# Altium integrated library Linear Technology Operational Amplifiers (LT2000-LT6000).IntLib: 1710 symbols (part 72 of 75)
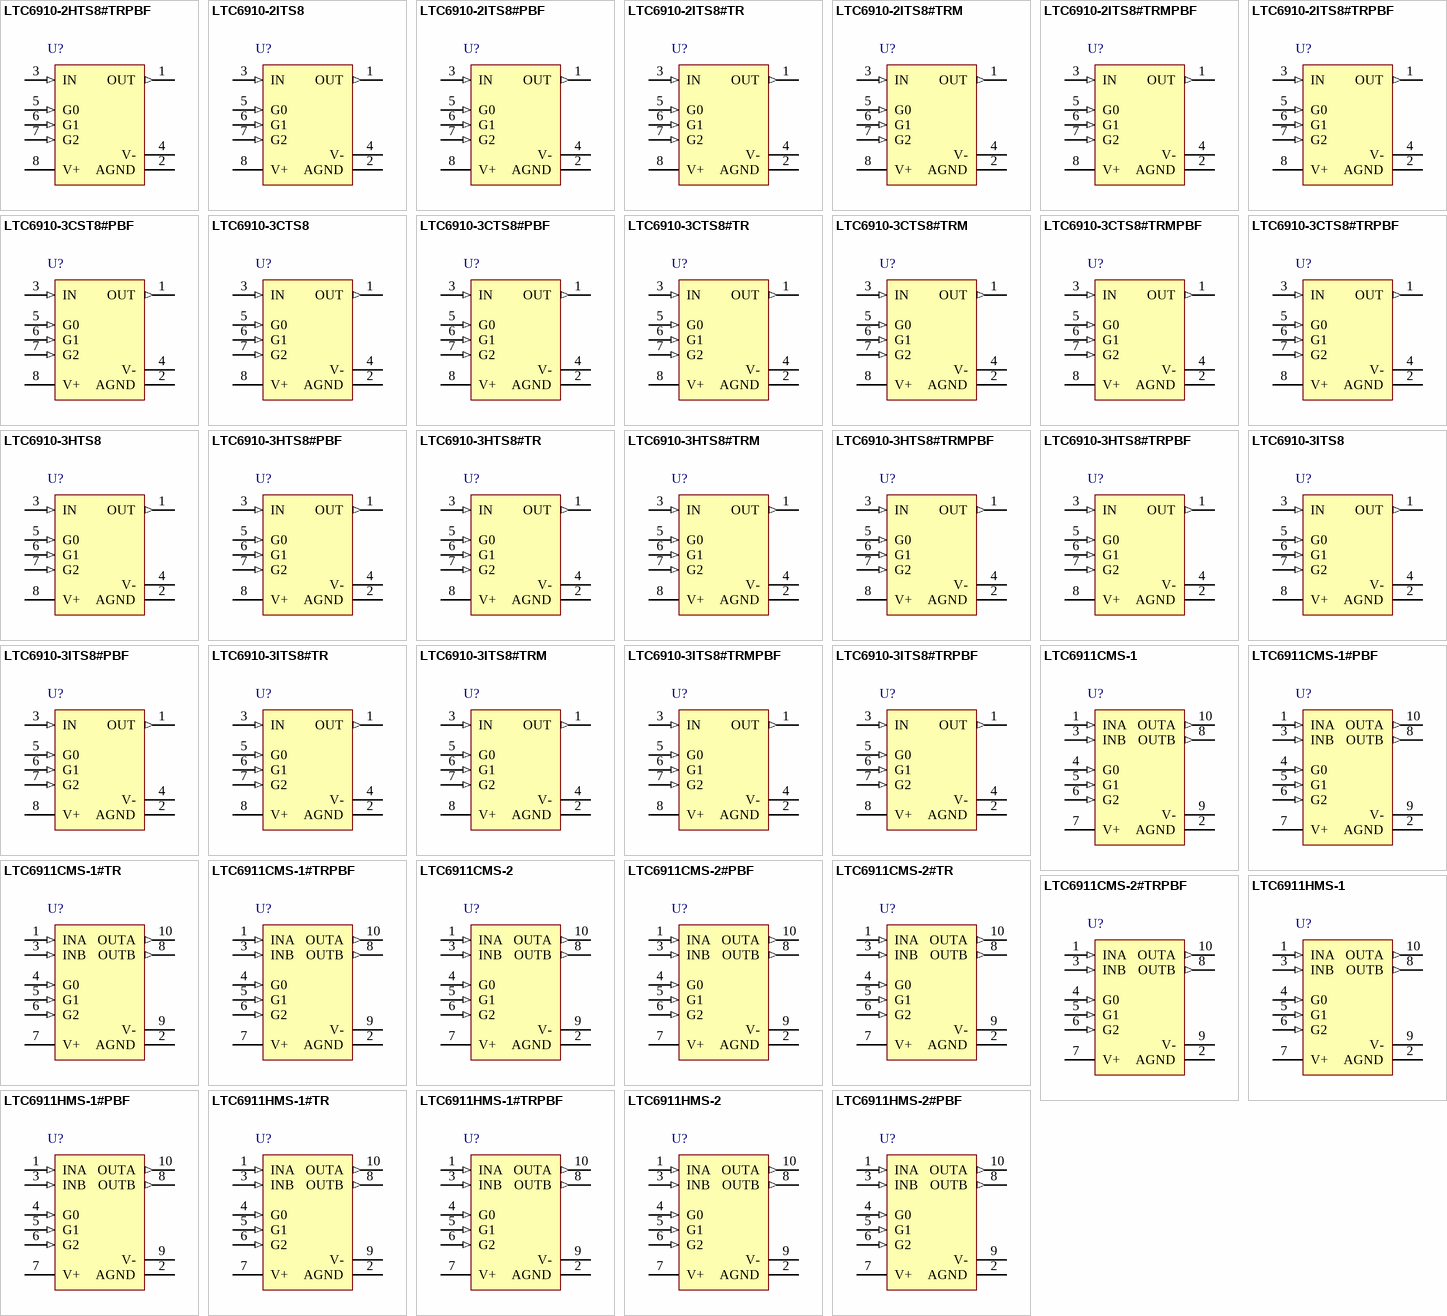
[diagram p151: symbols LTC6910-2HTS8#TRPBF to LTC6911HMS-2#PBF]

## LTC6911HMS-1#PBF
designator U?
Dual Channel, Matched Amplifier with Digitally Programmable Gain, 11 MHz Typical GBW, 16 V/us Typical SR, 2.7 to 10.5 V, 10-Pin SOP (MS-10), High Temperature / Automotive, Pb-Free; Linear Technology Part Number: LTC6911-1; Manufacturer: Linear Technology; PartNumber: LTC6911HMS-1#PBF; Channels (#): 2; GBW (MHz) Typical: 11; Is (mA) Typical: 2.1; SR (V/us) Typical: 16; Vs Max (V): 10.5; Vs Min (V): 2.7; PackageVersion: Rev E; PackageReference: LT-MS-10; PackageDescription: 10-Lead Plastic MSOP, Body 3 x 3 mm, Pitch 0.5 mm; Supplier 1: Digi-Key; Supplier Part Number 1: LTC6911HMS-1#PBF-ND; RoHS: Pb-Free; Type: PGA; Vos (mV) Typical: 2; Mounting Technology: Surface Mount; ComponentLink1Description: Manufacturer URL; ComponentLink1URL: http://www.linear.com/; ComponentLink2Description: Datasheet; ComponentLink2URL: http://cds.linear.com/docs/en/datasheet/691112fs.pdf; ComponentLink3Description: Package Specification; ComponentLink3URL: http://cds.linear.com/docs/en/packaging/MSOP_10_05-08-1661.pdf
footprint LT-MS-10_N (SOP, 10-Leads, Body 3x3mm, Pitch 0.50mm, IPC Medium Density)
footprint LT-MS-10_L (SOP, 10-Leads, Body 3x3mm, Pitch 0.50mm, IPC High Density)
footprint LT-MS-10_M (SOP, 10-Leads, Body 3x3mm, Pitch 0.50mm, IPC Low Density)
pins: 1 INA (in) "Analog Input. The input signal to the A channel amplifier of the LTC6911-X is the voltage difference between the INA and AGND pin.", 2 AGND (power) "Analog Ground. The AGND pin is at the midpoint of an internal resistive voltage divider, developing a potential halfway between the V+ and V- pins, with an equivalent series resistance to the pin of nominally 5kW (FigureÊ1).", 3 INB (in) "Analog Input. Refer to INA pin description.", 4 G0 (in) "CMOS-Level Digital Gain Control Inputs. G2 is the most significant bit (MSB) and G0 is the least significant bit (LSB). These pins control the voltage gain settings for both channels (see Tables 1 and2). Each channel’s gain (See Datasheet)", 5 G1 (in) "CMOS-Level Digital Gain Control Inputs. G2 is the most significant bit (MSB) and G0 is the least significant bit (LSB). These pins control the voltage gain settings for both channels (see Tables 1 and2). Each channel’s gain (See Datasheet)", 6 G2 (in) "CMOS-Level Digital Gain Control Inputs. G2 is the most significant bit (MSB) and G0 is the least significant bit (LSB). These pins control the voltage gain settings for both channels (see Tables 1 and2). Each channel’s gain (See Datasheet)", 7 V+ (power) "Power Supply Pins. The V+ and V- pins should be bypassed with 0.1mF capacitors to an adequate analog ground plane using the shortest possible wiring. Electrically clean supplies and a low impedance ground are important for (See Datasheet)", 8 OUTB (out) "Analog Output. This is the output of the B channel internal operational amplifier and can swing railto- rail (V+ to V-) as specified in the Electrical Characteristics table.", 9 V- (power) "Power Supply Pins. The V+ and V- pins should be bypassed with 0.1mF capacitors to an adequate analog ground plane using the shortest possible wiring. Electrically clean supplies and a low impedance ground are important for (See Datasheet)", 10 OUTA (out) "Analog Output. Refer to OUTB pin description."

## LTC6911HMS-1#TR
designator U?
Dual Channel, Matched Amplifier with Digitally Programmable Gain, 11 MHz Typical GBW, 16 V/us Typical SR, 2.7 to 10.5 V, 10-Pin SOP (MS-10), High Temperature / Automotive, Reel; Linear Technology Part Number: LTC6911-1; Manufacturer: Linear Technology; PartNumber: LTC6911HMS-1#TR; Channels (#): 2; GBW (MHz) Typical: 11; Is (mA) Typical: 2.1; SR (V/us) Typical: 16; Vs Max (V): 10.5; Vs Min (V): 2.7; PackageVersion: Rev E; PackageReference: LT-MS-10; PackageDescription: 10-Lead Plastic MSOP, Body 3 x 3 mm, Pitch 0.5 mm; Supplier 1: Digi-Key; Supplier Part Number 1: LTC6911HMS-1#TR-ND; Packing: Reel; Type: PGA; Vos (mV) Typical: 2; Mounting Technology: Surface Mount; ComponentLink1Description: Manufacturer URL; ComponentLink1URL: http://www.linear.com/; ComponentLink2Description: Datasheet; ComponentLink2URL: http://cds.linear.com/docs/en/datasheet/691112fs.pdf; ComponentLink3Description: Package Specification; ComponentLink3URL: http://cds.linear.com/docs/en/packaging/MSOP_10_05-08-1661.pdf
footprint LT-MS-10_N (SOP, 10-Leads, Body 3x3mm, Pitch 0.50mm, IPC Medium Density)
footprint LT-MS-10_L (SOP, 10-Leads, Body 3x3mm, Pitch 0.50mm, IPC High Density)
footprint LT-MS-10_M (SOP, 10-Leads, Body 3x3mm, Pitch 0.50mm, IPC Low Density)
pins: 1 INA (in) "Analog Input. The input signal to the A channel amplifier of the LTC6911-X is the voltage difference between the INA and AGND pin.", 2 AGND (power) "Analog Ground. The AGND pin is at the midpoint of an internal resistive voltage divider, developing a potential halfway between the V+ and V- pins, with an equivalent series resistance to the pin of nominally 5kW (FigureÊ1).", 3 INB (in) "Analog Input. Refer to INA pin description.", 4 G0 (in) "CMOS-Level Digital Gain Control Inputs. G2 is the most significant bit (MSB) and G0 is the least significant bit (LSB). These pins control the voltage gain settings for both channels (see Tables 1 and2). Each channel’s gain (See Datasheet)", 5 G1 (in) "CMOS-Level Digital Gain Control Inputs. G2 is the most significant bit (MSB) and G0 is the least significant bit (LSB). These pins control the voltage gain settings for both channels (see Tables 1 and2). Each channel’s gain (See Datasheet)", 6 G2 (in) "CMOS-Level Digital Gain Control Inputs. G2 is the most significant bit (MSB) and G0 is the least significant bit (LSB). These pins control the voltage gain settings for both channels (see Tables 1 and2). Each channel’s gain (See Datasheet)", 7 V+ (power) "Power Supply Pins. The V+ and V- pins should be bypassed with 0.1mF capacitors to an adequate analog ground plane using the shortest possible wiring. Electrically clean supplies and a low impedance ground are important for (See Datasheet)", 8 OUTB (out) "Analog Output. This is the output of the B channel internal operational amplifier and can swing railto- rail (V+ to V-) as specified in the Electrical Characteristics table.", 9 V- (power) "Power Supply Pins. The V+ and V- pins should be bypassed with 0.1mF capacitors to an adequate analog ground plane using the shortest possible wiring. Electrically clean supplies and a low impedance ground are important for (See Datasheet)", 10 OUTA (out) "Analog Output. Refer to OUTB pin description."

## LTC6911HMS-1#TRPBF
designator U?
Dual Channel, Matched Amplifier with Digitally Programmable Gain, 11 MHz Typical GBW, 16 V/us Typical SR, 2.7 to 10.5 V, 10-Pin SOP (MS-10), High Temperature / Automotive, Pb-Free, Reel; Linear Technology Part Number: LTC6911-1; Manufacturer: Linear Technology; PartNumber: LTC6911HMS-1#TRPBF; Channels (#): 2; GBW (MHz) Typical: 11; Is (mA) Typical: 2.1; SR (V/us) Typical: 16; Vs Max (V): 10.5; Vs Min (V): 2.7; PackageVersion: Rev E; PackageReference: LT-MS-10; PackageDescription: 10-Lead Plastic MSOP, Body 3 x 3 mm, Pitch 0.5 mm; Supplier 1: Digi-Key; Supplier Part Number 1: LTC6911HMS-1#TRPBF-ND; Packing: Reel; RoHS: Pb-Free; Type: PGA; Vos (mV) Typical: 2; Mounting Technology: Surface Mount; ComponentLink1Description: Manufacturer URL; ComponentLink1URL: http://www.linear.com/; ComponentLink2Description: Datasheet; ComponentLink2URL: http://cds.linear.com/docs/en/datasheet/691112fs.pdf; ComponentLink3Description: Package Specification; ComponentLink3URL: http://cds.linear.com/docs/en/packaging/MSOP_10_05-08-1661.pdf
footprint LT-MS-10_N (SOP, 10-Leads, Body 3x3mm, Pitch 0.50mm, IPC Medium Density)
footprint LT-MS-10_L (SOP, 10-Leads, Body 3x3mm, Pitch 0.50mm, IPC High Density)
footprint LT-MS-10_M (SOP, 10-Leads, Body 3x3mm, Pitch 0.50mm, IPC Low Density)
pins: 1 INA (in) "Analog Input. The input signal to the A channel amplifier of the LTC6911-X is the voltage difference between the INA and AGND pin.", 2 AGND (power) "Analog Ground. The AGND pin is at the midpoint of an internal resistive voltage divider, developing a potential halfway between the V+ and V- pins, with an equivalent series resistance to the pin of nominally 5kW (FigureÊ1).", 3 INB (in) "Analog Input. Refer to INA pin description.", 4 G0 (in) "CMOS-Level Digital Gain Control Inputs. G2 is the most significant bit (MSB) and G0 is the least significant bit (LSB). These pins control the voltage gain settings for both channels (see Tables 1 and2). Each channel’s gain (See Datasheet)", 5 G1 (in) "CMOS-Level Digital Gain Control Inputs. G2 is the most significant bit (MSB) and G0 is the least significant bit (LSB). These pins control the voltage gain settings for both channels (see Tables 1 and2). Each channel’s gain (See Datasheet)", 6 G2 (in) "CMOS-Level Digital Gain Control Inputs. G2 is the most significant bit (MSB) and G0 is the least significant bit (LSB). These pins control the voltage gain settings for both channels (see Tables 1 and2). Each channel’s gain (See Datasheet)", 7 V+ (power) "Power Supply Pins. The V+ and V- pins should be bypassed with 0.1mF capacitors to an adequate analog ground plane using the shortest possible wiring. Electrically clean supplies and a low impedance ground are important for (See Datasheet)", 8 OUTB (out) "Analog Output. This is the output of the B channel internal operational amplifier and can swing railto- rail (V+ to V-) as specified in the Electrical Characteristics table.", 9 V- (power) "Power Supply Pins. The V+ and V- pins should be bypassed with 0.1mF capacitors to an adequate analog ground plane using the shortest possible wiring. Electrically clean supplies and a low impedance ground are important for (See Datasheet)", 10 OUTA (out) "Analog Output. Refer to OUTB pin description."

## LTC6911HMS-2
designator U?
Dual Channel, Matched Amplifier with Digitally Programmable Gain, 11 MHz Typical GBW, 16 V/us Typical SR, 2.7 to 10.5 V, 10-Pin SOP (MS-10), High Temperature / Automotive; Linear Technology Part Number: LTC6911-2; Manufacturer: Linear Technology; PartNumber: LTC6911HMS-2; Channels (#): 2; GBW (MHz) Typical: 11; Is (mA) Typical: 2.1; SR (V/us) Typical: 16; Vs Max (V): 10.5; Vs Min (V): 2.7; PackageVersion: Rev E; PackageReference: LT-MS-10; PackageDescription: 10-Lead Plastic MSOP, Body 3 x 3 mm, Pitch 0.5 mm; Supplier 1: Digi-Key; Supplier Part Number 1: LTC6911HMS-2-ND; Type: PGA; Vos (mV) Typical: 2; Mounting Technology: Surface Mount; ComponentLink1Description: Manufacturer URL; ComponentLink1URL: http://www.linear.com/; ComponentLink2Description: Datasheet; ComponentLink2URL: http://cds.linear.com/docs/en/datasheet/691112fs.pdf; ComponentLink3Description: Package Specification; ComponentLink3URL: http://cds.linear.com/docs/en/packaging/MSOP_10_05-08-1661.pdf
footprint LT-MS-10_N (SOP, 10-Leads, Body 3x3mm, Pitch 0.50mm, IPC Medium Density)
footprint LT-MS-10_L (SOP, 10-Leads, Body 3x3mm, Pitch 0.50mm, IPC High Density)
footprint LT-MS-10_M (SOP, 10-Leads, Body 3x3mm, Pitch 0.50mm, IPC Low Density)
pins: 1 INA (in) "Analog Input. The input signal to the A channel amplifier of the LTC6911-X is the voltage difference between the INA and AGND pin.", 2 AGND (power) "Analog Ground. The AGND pin is at the midpoint of an internal resistive voltage divider, developing a potential halfway between the V+ and V- pins, with an equivalent series resistance to the pin of nominally 5kW (FigureÊ1).", 3 INB (in) "Analog Input. Refer to INA pin description.", 4 G0 (in) "CMOS-Level Digital Gain Control Inputs. G2 is the most significant bit (MSB) and G0 is the least significant bit (LSB). These pins control the voltage gain settings for both channels (see Tables 1 and2). Each channel’s gain (See Datasheet)", 5 G1 (in) "CMOS-Level Digital Gain Control Inputs. G2 is the most significant bit (MSB) and G0 is the least significant bit (LSB). These pins control the voltage gain settings for both channels (see Tables 1 and2). Each channel’s gain (See Datasheet)", 6 G2 (in) "CMOS-Level Digital Gain Control Inputs. G2 is the most significant bit (MSB) and G0 is the least significant bit (LSB). These pins control the voltage gain settings for both channels (see Tables 1 and2). Each channel’s gain (See Datasheet)", 7 V+ (power) "Power Supply Pins. The V+ and V- pins should be bypassed with 0.1mF capacitors to an adequate analog ground plane using the shortest possible wiring. Electrically clean supplies and a low impedance ground are important for (See Datasheet)", 8 OUTB (out) "Analog Output. This is the output of the B channel internal operational amplifier and can swing railto- rail (V+ to V-) as specified in the Electrical Characteristics table.", 9 V- (power) "Power Supply Pins. The V+ and V- pins should be bypassed with 0.1mF capacitors to an adequate analog ground plane using the shortest possible wiring. Electrically clean supplies and a low impedance ground are important for (See Datasheet)", 10 OUTA (out) "Analog Output. Refer to OUTB pin description."

## LTC6911HMS-2#PBF
designator U?
Dual Channel, Matched Amplifier with Digitally Programmable Gain, 11 MHz Typical GBW, 16 V/us Typical SR, 2.7 to 10.5 V, 10-Pin SOP (MS-10), High Temperature / Automotive, Pb-Free; Linear Technology Part Number: LTC6911-2; Manufacturer: Linear Technology; PartNumber: LTC6911HMS-2#PBF; Channels (#): 2; GBW (MHz) Typical: 11; Is (mA) Typical: 2.1; SR (V/us) Typical: 16; Vs Max (V): 10.5; Vs Min (V): 2.7; PackageVersion: Rev E; PackageReference: LT-MS-10; PackageDescription: 10-Lead Plastic MSOP, Body 3 x 3 mm, Pitch 0.5 mm; Supplier 1: Digi-Key; Supplier Part Number 1: LTC6911HMS-2#PBF-ND; Supplier 2: Newark; Supplier Part Number 2: 57M0377; RoHS: Pb-Free; Type: PGA; Vos (mV) Typical: 2; Mounting Technology: Surface Mount; ComponentLink1Description: Manufacturer URL; ComponentLink1URL: http://www.linear.com/; ComponentLink2Description: Datasheet; ComponentLink2URL: http://cds.linear.com/docs/en/datasheet/691112fs.pdf; ComponentLink3Description: Package Specification; ComponentLink3URL: http://cds.linear.com/docs/en/packaging/MSOP_10_05-08-1661.pdf
footprint LT-MS-10_N (SOP, 10-Leads, Body 3x3mm, Pitch 0.50mm, IPC Medium Density)
footprint LT-MS-10_L (SOP, 10-Leads, Body 3x3mm, Pitch 0.50mm, IPC High Density)
footprint LT-MS-10_M (SOP, 10-Leads, Body 3x3mm, Pitch 0.50mm, IPC Low Density)
pins: 1 INA (in) "Analog Input. The input signal to the A channel amplifier of the LTC6911-X is the voltage difference between the INA and AGND pin.", 2 AGND (power) "Analog Ground. The AGND pin is at the midpoint of an internal resistive voltage divider, developing a potential halfway between the V+ and V- pins, with an equivalent series resistance to the pin of nominally 5kW (FigureÊ1).", 3 INB (in) "Analog Input. Refer to INA pin description.", 4 G0 (in) "CMOS-Level Digital Gain Control Inputs. G2 is the most significant bit (MSB) and G0 is the least significant bit (LSB). These pins control the voltage gain settings for both channels (see Tables 1 and2). Each channel’s gain (See Datasheet)", 5 G1 (in) "CMOS-Level Digital Gain Control Inputs. G2 is the most significant bit (MSB) and G0 is the least significant bit (LSB). These pins control the voltage gain settings for both channels (see Tables 1 and2). Each channel’s gain (See Datasheet)", 6 G2 (in) "CMOS-Level Digital Gain Control Inputs. G2 is the most significant bit (MSB) and G0 is the least significant bit (LSB). These pins control the voltage gain settings for both channels (see Tables 1 and2). Each channel’s gain (See Datasheet)", 7 V+ (power) "Power Supply Pins. The V+ and V- pins should be bypassed with 0.1mF capacitors to an adequate analog ground plane using the shortest possible wiring. Electrically clean supplies and a low impedance ground are important for (See Datasheet)", 8 OUTB (out) "Analog Output. This is the output of the B channel internal operational amplifier and can swing railto- rail (V+ to V-) as specified in the Electrical Characteristics table.", 9 V- (power) "Power Supply Pins. The V+ and V- pins should be bypassed with 0.1mF capacitors to an adequate analog ground plane using the shortest possible wiring. Electrically clean supplies and a low impedance ground are important for (See Datasheet)", 10 OUTA (out) "Analog Output. Refer to OUTB pin description."

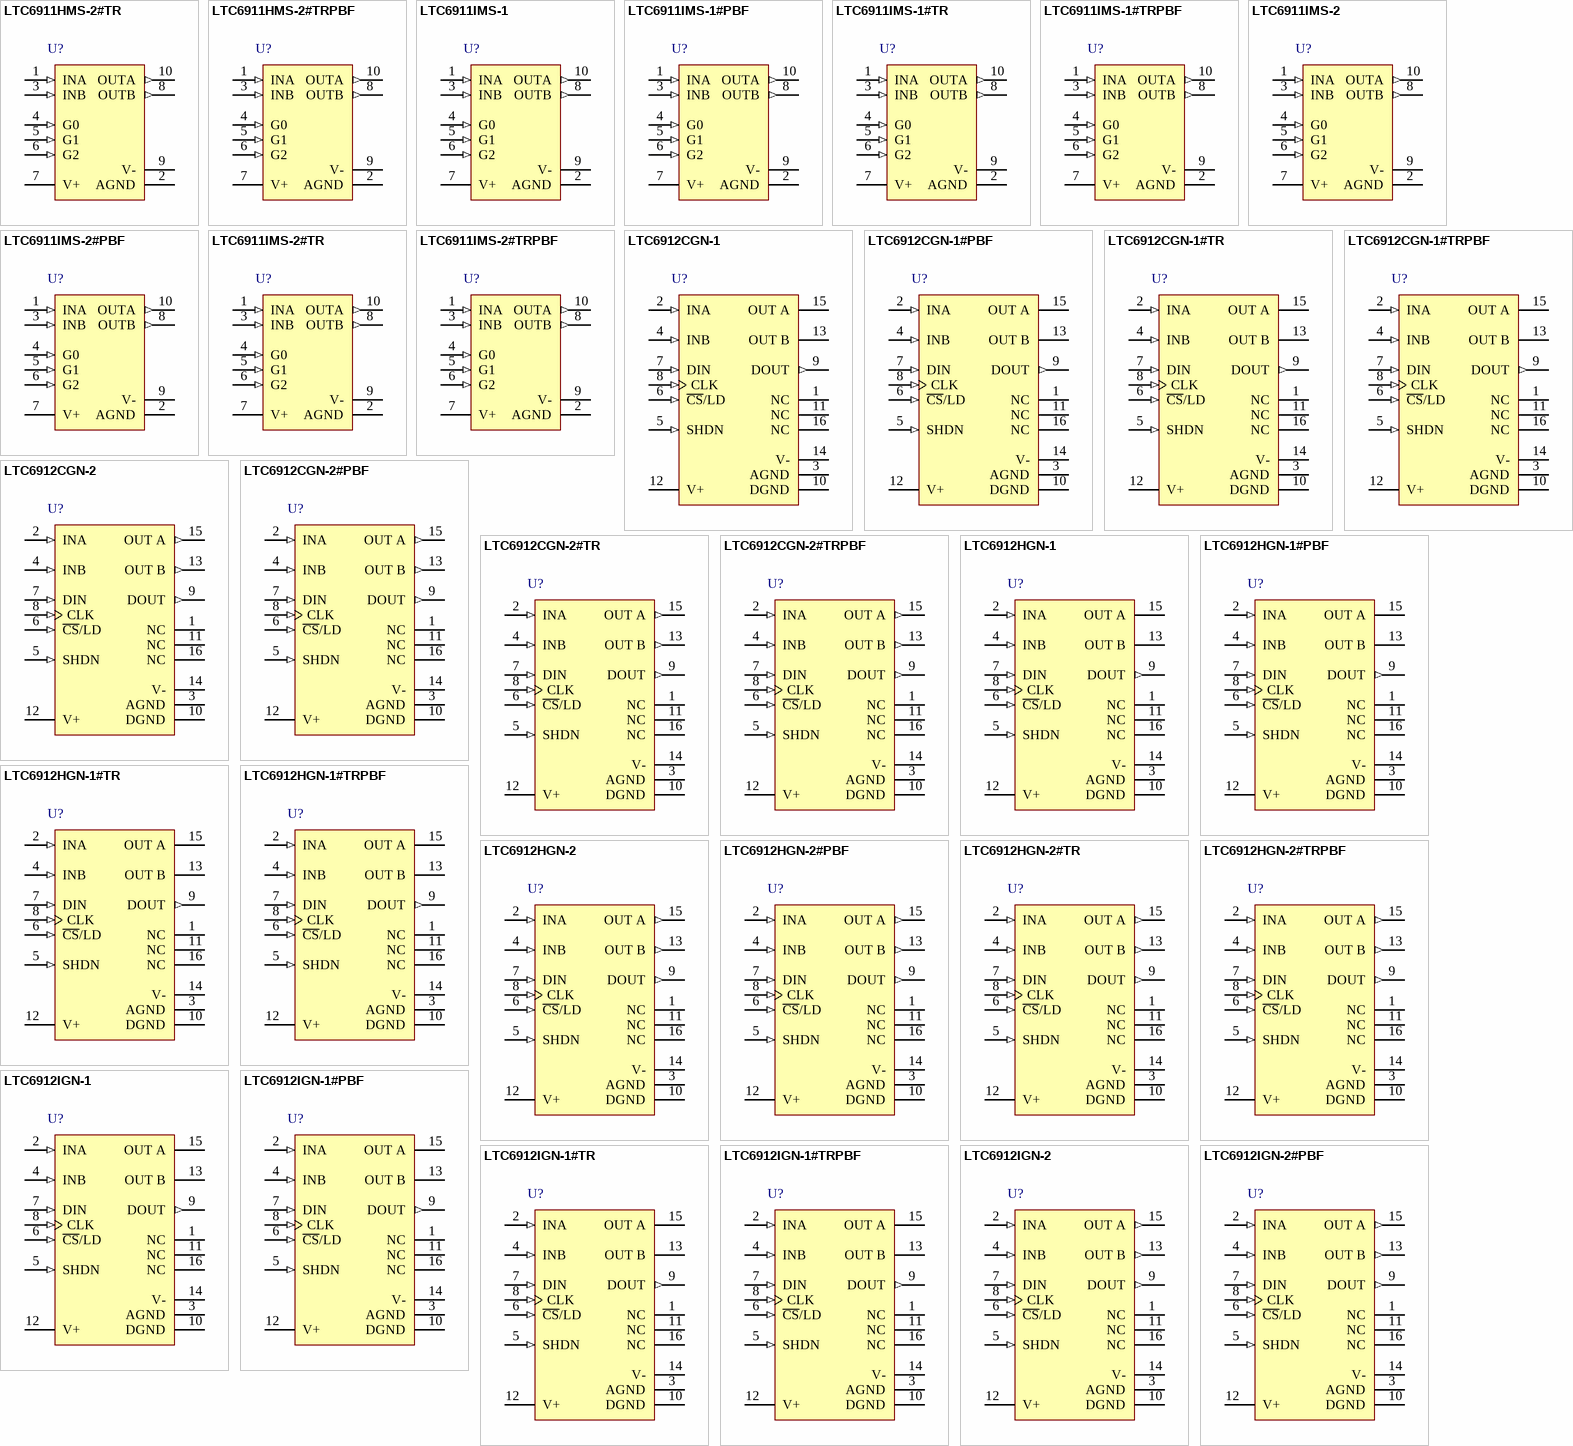
[diagram p79: symbols LTC6911HMS-2#TR to LTC6912IGN-2#PBF]

## LTC6911HMS-2#TR
designator U?
Dual Channel, Matched Amplifier with Digitally Programmable Gain, 11 MHz Typical GBW, 16 V/us Typical SR, 2.7 to 10.5 V, 10-Pin SOP (MS-10), High Temperature / Automotive, Reel; Linear Technology Part Number: LTC6911-2; Manufacturer: Linear Technology; PartNumber: LTC6911HMS-2#TR; Channels (#): 2; GBW (MHz) Typical: 11; Is (mA) Typical: 2.1; SR (V/us) Typical: 16; Vs Max (V): 10.5; Vs Min (V): 2.7; PackageVersion: Rev E; PackageReference: LT-MS-10; PackageDescription: 10-Lead Plastic MSOP, Body 3 x 3 mm, Pitch 0.5 mm; Supplier 1: Digi-Key; Supplier Part Number 1: LTC6911HMS-2#TR-ND; Packing: Reel; Type: PGA; Vos (mV) Typical: 2; Mounting Technology: Surface Mount; ComponentLink1Description: Manufacturer URL; ComponentLink1URL: http://www.linear.com/; ComponentLink2Description: Datasheet; ComponentLink2URL: http://cds.linear.com/docs/en/datasheet/691112fs.pdf; ComponentLink3Description: Package Specification; ComponentLink3URL: http://cds.linear.com/docs/en/packaging/MSOP_10_05-08-1661.pdf
footprint LT-MS-10_N (SOP, 10-Leads, Body 3x3mm, Pitch 0.50mm, IPC Medium Density)
footprint LT-MS-10_L (SOP, 10-Leads, Body 3x3mm, Pitch 0.50mm, IPC High Density)
footprint LT-MS-10_M (SOP, 10-Leads, Body 3x3mm, Pitch 0.50mm, IPC Low Density)
pins: 1 INA (in) "Analog Input. The input signal to the A channel amplifier of the LTC6911-X is the voltage difference between the INA and AGND pin.", 2 AGND (power) "Analog Ground. The AGND pin is at the midpoint of an internal resistive voltage divider, developing a potential halfway between the V+ and V- pins, with an equivalent series resistance to the pin of nominally 5kW (FigureÊ1).", 3 INB (in) "Analog Input. Refer to INA pin description.", 4 G0 (in) "CMOS-Level Digital Gain Control Inputs. G2 is the most significant bit (MSB) and G0 is the least significant bit (LSB). These pins control the voltage gain settings for both channels (see Tables 1 and2). Each channel’s gain (See Datasheet)", 5 G1 (in) "CMOS-Level Digital Gain Control Inputs. G2 is the most significant bit (MSB) and G0 is the least significant bit (LSB). These pins control the voltage gain settings for both channels (see Tables 1 and2). Each channel’s gain (See Datasheet)", 6 G2 (in) "CMOS-Level Digital Gain Control Inputs. G2 is the most significant bit (MSB) and G0 is the least significant bit (LSB). These pins control the voltage gain settings for both channels (see Tables 1 and2). Each channel’s gain (See Datasheet)", 7 V+ (power) "Power Supply Pins. The V+ and V- pins should be bypassed with 0.1mF capacitors to an adequate analog ground plane using the shortest possible wiring. Electrically clean supplies and a low impedance ground are important for (See Datasheet)", 8 OUTB (out) "Analog Output. This is the output of the B channel internal operational amplifier and can swing railto- rail (V+ to V-) as specified in the Electrical Characteristics table.", 9 V- (power) "Power Supply Pins. The V+ and V- pins should be bypassed with 0.1mF capacitors to an adequate analog ground plane using the shortest possible wiring. Electrically clean supplies and a low impedance ground are important for (See Datasheet)", 10 OUTA (out) "Analog Output. Refer to OUTB pin description."

## LTC6911HMS-2#TRPBF
designator U?
Dual Channel, Matched Amplifier with Digitally Programmable Gain, 11 MHz Typical GBW, 16 V/us Typical SR, 2.7 to 10.5 V, 10-Pin SOP (MS-10), High Temperature / Automotive, Pb-Free, Reel; Linear Technology Part Number: LTC6911-2; Manufacturer: Linear Technology; PartNumber: LTC6911HMS-2#TRPBF; Channels (#): 2; GBW (MHz) Typical: 11; Is (mA) Typical: 2.1; SR (V/us) Typical: 16; Vs Max (V): 10.5; Vs Min (V): 2.7; PackageVersion: Rev E; PackageReference: LT-MS-10; PackageDescription: 10-Lead Plastic MSOP, Body 3 x 3 mm, Pitch 0.5 mm; Supplier 1: Digi-Key; Supplier Part Number 1: LTC6911HMS-2#TRPBF-ND; Packing: Reel; RoHS: Pb-Free; Type: PGA; Vos (mV) Typical: 2; Mounting Technology: Surface Mount; ComponentLink1Description: Manufacturer URL; ComponentLink1URL: http://www.linear.com/; ComponentLink2Description: Datasheet; ComponentLink2URL: http://cds.linear.com/docs/en/datasheet/691112fs.pdf; ComponentLink3Description: Package Specification; ComponentLink3URL: http://cds.linear.com/docs/en/packaging/MSOP_10_05-08-1661.pdf
footprint LT-MS-10_N (SOP, 10-Leads, Body 3x3mm, Pitch 0.50mm, IPC Medium Density)
footprint LT-MS-10_L (SOP, 10-Leads, Body 3x3mm, Pitch 0.50mm, IPC High Density)
footprint LT-MS-10_M (SOP, 10-Leads, Body 3x3mm, Pitch 0.50mm, IPC Low Density)
pins: 1 INA (in) "Analog Input. The input signal to the A channel amplifier of the LTC6911-X is the voltage difference between the INA and AGND pin.", 2 AGND (power) "Analog Ground. The AGND pin is at the midpoint of an internal resistive voltage divider, developing a potential halfway between the V+ and V- pins, with an equivalent series resistance to the pin of nominally 5kW (FigureÊ1).", 3 INB (in) "Analog Input. Refer to INA pin description.", 4 G0 (in) "CMOS-Level Digital Gain Control Inputs. G2 is the most significant bit (MSB) and G0 is the least significant bit (LSB). These pins control the voltage gain settings for both channels (see Tables 1 and2). Each channel’s gain (See Datasheet)", 5 G1 (in) "CMOS-Level Digital Gain Control Inputs. G2 is the most significant bit (MSB) and G0 is the least significant bit (LSB). These pins control the voltage gain settings for both channels (see Tables 1 and2). Each channel’s gain (See Datasheet)", 6 G2 (in) "CMOS-Level Digital Gain Control Inputs. G2 is the most significant bit (MSB) and G0 is the least significant bit (LSB). These pins control the voltage gain settings for both channels (see Tables 1 and2). Each channel’s gain (See Datasheet)", 7 V+ (power) "Power Supply Pins. The V+ and V- pins should be bypassed with 0.1mF capacitors to an adequate analog ground plane using the shortest possible wiring. Electrically clean supplies and a low impedance ground are important for (See Datasheet)", 8 OUTB (out) "Analog Output. This is the output of the B channel internal operational amplifier and can swing railto- rail (V+ to V-) as specified in the Electrical Characteristics table.", 9 V- (power) "Power Supply Pins. The V+ and V- pins should be bypassed with 0.1mF capacitors to an adequate analog ground plane using the shortest possible wiring. Electrically clean supplies and a low impedance ground are important for (See Datasheet)", 10 OUTA (out) "Analog Output. Refer to OUTB pin description."

## LTC6911IMS-1
designator U?
Dual Channel, Matched Amplifier with Digitally Programmable Gain, 11 MHz Typical GBW, 16 V/us Typical SR, 2.7 to 10.5 V, 10-Pin SOP (MS-10), Industrial; Linear Technology Part Number: LTC6911-1; Manufacturer: Linear Technology; PartNumber: LTC6911IMS-1; Channels (#): 2; GBW (MHz) Typical: 11; Is (mA) Typical: 2.1; SR (V/us) Typical: 16; Vs Max (V): 10.5; Vs Min (V): 2.7; PackageVersion: Rev E; PackageReference: LT-MS-10; PackageDescription: 10-Lead Plastic MSOP, Body 3 x 3 mm, Pitch 0.5 mm; Supplier 1: Digi-Key; Supplier Part Number 1: LTC6911IMS-1-ND; Type: PGA; Vos (mV) Typical: 2; Mounting Technology: Surface Mount; ComponentLink1Description: Manufacturer URL; ComponentLink1URL: http://www.linear.com/; ComponentLink2Description: Datasheet; ComponentLink2URL: http://cds.linear.com/docs/en/datasheet/691112fs.pdf; ComponentLink3Description: Package Specification; ComponentLink3URL: http://cds.linear.com/docs/en/packaging/MSOP_10_05-08-1661.pdf
footprint LT-MS-10_N (SOP, 10-Leads, Body 3x3mm, Pitch 0.50mm, IPC Medium Density)
footprint LT-MS-10_L (SOP, 10-Leads, Body 3x3mm, Pitch 0.50mm, IPC High Density)
footprint LT-MS-10_M (SOP, 10-Leads, Body 3x3mm, Pitch 0.50mm, IPC Low Density)
pins: 1 INA (in) "Analog Input. The input signal to the A channel amplifier of the LTC6911-X is the voltage difference between the INA and AGND pin.", 2 AGND (power) "Analog Ground. The AGND pin is at the midpoint of an internal resistive voltage divider, developing a potential halfway between the V+ and V- pins, with an equivalent series resistance to the pin of nominally 5kW (FigureÊ1).", 3 INB (in) "Analog Input. Refer to INA pin description.", 4 G0 (in) "CMOS-Level Digital Gain Control Inputs. G2 is the most significant bit (MSB) and G0 is the least significant bit (LSB). These pins control the voltage gain settings for both channels (see Tables 1 and2). Each channel’s gain (See Datasheet)", 5 G1 (in) "CMOS-Level Digital Gain Control Inputs. G2 is the most significant bit (MSB) and G0 is the least significant bit (LSB). These pins control the voltage gain settings for both channels (see Tables 1 and2). Each channel’s gain (See Datasheet)", 6 G2 (in) "CMOS-Level Digital Gain Control Inputs. G2 is the most significant bit (MSB) and G0 is the least significant bit (LSB). These pins control the voltage gain settings for both channels (see Tables 1 and2). Each channel’s gain (See Datasheet)", 7 V+ (power) "Power Supply Pins. The V+ and V- pins should be bypassed with 0.1mF capacitors to an adequate analog ground plane using the shortest possible wiring. Electrically clean supplies and a low impedance ground are important for (See Datasheet)", 8 OUTB (out) "Analog Output. This is the output of the B channel internal operational amplifier and can swing railto- rail (V+ to V-) as specified in the Electrical Characteristics table.", 9 V- (power) "Power Supply Pins. The V+ and V- pins should be bypassed with 0.1mF capacitors to an adequate analog ground plane using the shortest possible wiring. Electrically clean supplies and a low impedance ground are important for (See Datasheet)", 10 OUTA (out) "Analog Output. Refer to OUTB pin description."

## LTC6911IMS-1#PBF
designator U?
Dual Channel, Matched Amplifier with Digitally Programmable Gain, 11 MHz Typical GBW, 16 V/us Typical SR, 2.7 to 10.5 V, 10-Pin SOP (MS-10), Industrial, Pb-Free; Linear Technology Part Number: LTC6911-1; Manufacturer: Linear Technology; PartNumber: LTC6911IMS-1#PBF; Channels (#): 2; GBW (MHz) Typical: 11; Is (mA) Typical: 2.1; SR (V/us) Typical: 16; Vs Max (V): 10.5; Vs Min (V): 2.7; PackageVersion: Rev E; PackageReference: LT-MS-10; PackageDescription: 10-Lead Plastic MSOP, Body 3 x 3 mm, Pitch 0.5 mm; Supplier 1: Digi-Key; Supplier Part Number 1: LTC6911IMS-1#PBF-ND; Supplier 2: Newark; Supplier Part Number 2: 57M0381; RoHS: Pb-Free; Type: PGA; Vos (mV) Typical: 2; Mounting Technology: Surface Mount; ComponentLink1Description: Manufacturer URL; ComponentLink1URL: http://www.linear.com/; ComponentLink2Description: Datasheet; ComponentLink2URL: http://cds.linear.com/docs/en/datasheet/691112fs.pdf; ComponentLink3Description: Package Specification; ComponentLink3URL: http://cds.linear.com/docs/en/packaging/MSOP_10_05-08-1661.pdf
footprint LT-MS-10_N (SOP, 10-Leads, Body 3x3mm, Pitch 0.50mm, IPC Medium Density)
footprint LT-MS-10_L (SOP, 10-Leads, Body 3x3mm, Pitch 0.50mm, IPC High Density)
footprint LT-MS-10_M (SOP, 10-Leads, Body 3x3mm, Pitch 0.50mm, IPC Low Density)
pins: 1 INA (in) "Analog Input. The input signal to the A channel amplifier of the LTC6911-X is the voltage difference between the INA and AGND pin.", 2 AGND (power) "Analog Ground. The AGND pin is at the midpoint of an internal resistive voltage divider, developing a potential halfway between the V+ and V- pins, with an equivalent series resistance to the pin of nominally 5kW (FigureÊ1).", 3 INB (in) "Analog Input. Refer to INA pin description.", 4 G0 (in) "CMOS-Level Digital Gain Control Inputs. G2 is the most significant bit (MSB) and G0 is the least significant bit (LSB). These pins control the voltage gain settings for both channels (see Tables 1 and2). Each channel’s gain (See Datasheet)", 5 G1 (in) "CMOS-Level Digital Gain Control Inputs. G2 is the most significant bit (MSB) and G0 is the least significant bit (LSB). These pins control the voltage gain settings for both channels (see Tables 1 and2). Each channel’s gain (See Datasheet)", 6 G2 (in) "CMOS-Level Digital Gain Control Inputs. G2 is the most significant bit (MSB) and G0 is the least significant bit (LSB). These pins control the voltage gain settings for both channels (see Tables 1 and2). Each channel’s gain (See Datasheet)", 7 V+ (power) "Power Supply Pins. The V+ and V- pins should be bypassed with 0.1mF capacitors to an adequate analog ground plane using the shortest possible wiring. Electrically clean supplies and a low impedance ground are important for (See Datasheet)", 8 OUTB (out) "Analog Output. This is the output of the B channel internal operational amplifier and can swing railto- rail (V+ to V-) as specified in the Electrical Characteristics table.", 9 V- (power) "Power Supply Pins. The V+ and V- pins should be bypassed with 0.1mF capacitors to an adequate analog ground plane using the shortest possible wiring. Electrically clean supplies and a low impedance ground are important for (See Datasheet)", 10 OUTA (out) "Analog Output. Refer to OUTB pin description."

## LTC6911IMS-1#TR
designator U?
Dual Channel, Matched Amplifier with Digitally Programmable Gain, 11 MHz Typical GBW, 16 V/us Typical SR, 2.7 to 10.5 V, 10-Pin SOP (MS-10), Industrial, Reel; Linear Technology Part Number: LTC6911-1; Manufacturer: Linear Technology; PartNumber: LTC6911IMS-1#TR; Channels (#): 2; GBW (MHz) Typical: 11; Is (mA) Typical: 2.1; SR (V/us) Typical: 16; Vs Max (V): 10.5; Vs Min (V): 2.7; PackageVersion: Rev E; PackageReference: LT-MS-10; PackageDescription: 10-Lead Plastic MSOP, Body 3 x 3 mm, Pitch 0.5 mm; Supplier 1: Digi-Key; Supplier Part Number 1: LTC6911IMS-1#TR-ND; Packing: Reel; Type: PGA; Vos (mV) Typical: 2; Mounting Technology: Surface Mount; ComponentLink1Description: Manufacturer URL; ComponentLink1URL: http://www.linear.com/; ComponentLink2Description: Datasheet; ComponentLink2URL: http://cds.linear.com/docs/en/datasheet/691112fs.pdf; ComponentLink3Description: Package Specification; ComponentLink3URL: http://cds.linear.com/docs/en/packaging/MSOP_10_05-08-1661.pdf
footprint LT-MS-10_N (SOP, 10-Leads, Body 3x3mm, Pitch 0.50mm, IPC Medium Density)
footprint LT-MS-10_L (SOP, 10-Leads, Body 3x3mm, Pitch 0.50mm, IPC High Density)
footprint LT-MS-10_M (SOP, 10-Leads, Body 3x3mm, Pitch 0.50mm, IPC Low Density)
pins: 1 INA (in) "Analog Input. The input signal to the A channel amplifier of the LTC6911-X is the voltage difference between the INA and AGND pin.", 2 AGND (power) "Analog Ground. The AGND pin is at the midpoint of an internal resistive voltage divider, developing a potential halfway between the V+ and V- pins, with an equivalent series resistance to the pin of nominally 5kW (FigureÊ1).", 3 INB (in) "Analog Input. Refer to INA pin description.", 4 G0 (in) "CMOS-Level Digital Gain Control Inputs. G2 is the most significant bit (MSB) and G0 is the least significant bit (LSB). These pins control the voltage gain settings for both channels (see Tables 1 and2). Each channel’s gain (See Datasheet)", 5 G1 (in) "CMOS-Level Digital Gain Control Inputs. G2 is the most significant bit (MSB) and G0 is the least significant bit (LSB). These pins control the voltage gain settings for both channels (see Tables 1 and2). Each channel’s gain (See Datasheet)", 6 G2 (in) "CMOS-Level Digital Gain Control Inputs. G2 is the most significant bit (MSB) and G0 is the least significant bit (LSB). These pins control the voltage gain settings for both channels (see Tables 1 and2). Each channel’s gain (See Datasheet)", 7 V+ (power) "Power Supply Pins. The V+ and V- pins should be bypassed with 0.1mF capacitors to an adequate analog ground plane using the shortest possible wiring. Electrically clean supplies and a low impedance ground are important for (See Datasheet)", 8 OUTB (out) "Analog Output. This is the output of the B channel internal operational amplifier and can swing railto- rail (V+ to V-) as specified in the Electrical Characteristics table.", 9 V- (power) "Power Supply Pins. The V+ and V- pins should be bypassed with 0.1mF capacitors to an adequate analog ground plane using the shortest possible wiring. Electrically clean supplies and a low impedance ground are important for (See Datasheet)", 10 OUTA (out) "Analog Output. Refer to OUTB pin description."

## LTC6911IMS-1#TRPBF
designator U?
Dual Channel, Matched Amplifier with Digitally Programmable Gain, 11 MHz Typical GBW, 16 V/us Typical SR, 2.7 to 10.5 V, 10-Pin SOP (MS-10), Industrial, Pb-Free, Reel; Linear Technology Part Number: LTC6911-1; Manufacturer: Linear Technology; PartNumber: LTC6911IMS-1#TRPBF; Channels (#): 2; GBW (MHz) Typical: 11; Is (mA) Typical: 2.1; SR (V/us) Typical: 16; Vs Max (V): 10.5; Vs Min (V): 2.7; PackageVersion: Rev E; PackageReference: LT-MS-10; PackageDescription: 10-Lead Plastic MSOP, Body 3 x 3 mm, Pitch 0.5 mm; Supplier 1: Digi-Key; Supplier Part Number 1: LTC6911IMS-1#TRPBF-ND; Packing: Reel; RoHS: Pb-Free; Type: PGA; Vos (mV) Typical: 2; Mounting Technology: Surface Mount; ComponentLink1Description: Manufacturer URL; ComponentLink1URL: http://www.linear.com/; ComponentLink2Description: Datasheet; ComponentLink2URL: http://cds.linear.com/docs/en/datasheet/691112fs.pdf; ComponentLink3Description: Package Specification; ComponentLink3URL: http://cds.linear.com/docs/en/packaging/MSOP_10_05-08-1661.pdf
footprint LT-MS-10_N (SOP, 10-Leads, Body 3x3mm, Pitch 0.50mm, IPC Medium Density)
footprint LT-MS-10_L (SOP, 10-Leads, Body 3x3mm, Pitch 0.50mm, IPC High Density)
footprint LT-MS-10_M (SOP, 10-Leads, Body 3x3mm, Pitch 0.50mm, IPC Low Density)
pins: 1 INA (in) "Analog Input. The input signal to the A channel amplifier of the LTC6911-X is the voltage difference between the INA and AGND pin.", 2 AGND (power) "Analog Ground. The AGND pin is at the midpoint of an internal resistive voltage divider, developing a potential halfway between the V+ and V- pins, with an equivalent series resistance to the pin of nominally 5kW (FigureÊ1).", 3 INB (in) "Analog Input. Refer to INA pin description.", 4 G0 (in) "CMOS-Level Digital Gain Control Inputs. G2 is the most significant bit (MSB) and G0 is the least significant bit (LSB). These pins control the voltage gain settings for both channels (see Tables 1 and2). Each channel’s gain (See Datasheet)", 5 G1 (in) "CMOS-Level Digital Gain Control Inputs. G2 is the most significant bit (MSB) and G0 is the least significant bit (LSB). These pins control the voltage gain settings for both channels (see Tables 1 and2). Each channel’s gain (See Datasheet)", 6 G2 (in) "CMOS-Level Digital Gain Control Inputs. G2 is the most significant bit (MSB) and G0 is the least significant bit (LSB). These pins control the voltage gain settings for both channels (see Tables 1 and2). Each channel’s gain (See Datasheet)", 7 V+ (power) "Power Supply Pins. The V+ and V- pins should be bypassed with 0.1mF capacitors to an adequate analog ground plane using the shortest possible wiring. Electrically clean supplies and a low impedance ground are important for (See Datasheet)", 8 OUTB (out) "Analog Output. This is the output of the B channel internal operational amplifier and can swing railto- rail (V+ to V-) as specified in the Electrical Characteristics table.", 9 V- (power) "Power Supply Pins. The V+ and V- pins should be bypassed with 0.1mF capacitors to an adequate analog ground plane using the shortest possible wiring. Electrically clean supplies and a low impedance ground are important for (See Datasheet)", 10 OUTA (out) "Analog Output. Refer to OUTB pin description."

## LTC6911IMS-2
designator U?
Dual Channel, Matched Amplifier with Digitally Programmable Gain, 11 MHz Typical GBW, 16 V/us Typical SR, 2.7 to 10.5 V, 10-Pin SOP (MS-10), Industrial; Linear Technology Part Number: LTC6911-2; Manufacturer: Linear Technology; PartNumber: LTC6911IMS-2; Channels (#): 2; GBW (MHz) Typical: 11; Is (mA) Typical: 2.1; SR (V/us) Typical: 16; Vs Max (V): 10.5; Vs Min (V): 2.7; PackageVersion: Rev E; PackageReference: LT-MS-10; PackageDescription: 10-Lead Plastic MSOP, Body 3 x 3 mm, Pitch 0.5 mm; Supplier 1: Digi-Key; Supplier Part Number 1: LTC6911IMS-2-ND; Type: PGA; Vos (mV) Typical: 2; Mounting Technology: Surface Mount; ComponentLink1Description: Manufacturer URL; ComponentLink1URL: http://www.linear.com/; ComponentLink2Description: Datasheet; ComponentLink2URL: http://cds.linear.com/docs/en/datasheet/691112fs.pdf; ComponentLink3Description: Package Specification; ComponentLink3URL: http://cds.linear.com/docs/en/packaging/MSOP_10_05-08-1661.pdf
footprint LT-MS-10_N (SOP, 10-Leads, Body 3x3mm, Pitch 0.50mm, IPC Medium Density)
footprint LT-MS-10_L (SOP, 10-Leads, Body 3x3mm, Pitch 0.50mm, IPC High Density)
footprint LT-MS-10_M (SOP, 10-Leads, Body 3x3mm, Pitch 0.50mm, IPC Low Density)
pins: 1 INA (in) "Analog Input. The input signal to the A channel amplifier of the LTC6911-X is the voltage difference between the INA and AGND pin.", 2 AGND (power) "Analog Ground. The AGND pin is at the midpoint of an internal resistive voltage divider, developing a potential halfway between the V+ and V- pins, with an equivalent series resistance to the pin of nominally 5kW (FigureÊ1).", 3 INB (in) "Analog Input. Refer to INA pin description.", 4 G0 (in) "CMOS-Level Digital Gain Control Inputs. G2 is the most significant bit (MSB) and G0 is the least significant bit (LSB). These pins control the voltage gain settings for both channels (see Tables 1 and2). Each channel’s gain (See Datasheet)", 5 G1 (in) "CMOS-Level Digital Gain Control Inputs. G2 is the most significant bit (MSB) and G0 is the least significant bit (LSB). These pins control the voltage gain settings for both channels (see Tables 1 and2). Each channel’s gain (See Datasheet)", 6 G2 (in) "CMOS-Level Digital Gain Control Inputs. G2 is the most significant bit (MSB) and G0 is the least significant bit (LSB). These pins control the voltage gain settings for both channels (see Tables 1 and2). Each channel’s gain (See Datasheet)", 7 V+ (power) "Power Supply Pins. The V+ and V- pins should be bypassed with 0.1mF capacitors to an adequate analog ground plane using the shortest possible wiring. Electrically clean supplies and a low impedance ground are important for (See Datasheet)", 8 OUTB (out) "Analog Output. This is the output of the B channel internal operational amplifier and can swing railto- rail (V+ to V-) as specified in the Electrical Characteristics table.", 9 V- (power) "Power Supply Pins. The V+ and V- pins should be bypassed with 0.1mF capacitors to an adequate analog ground plane using the shortest possible wiring. Electrically clean supplies and a low impedance ground are important for (See Datasheet)", 10 OUTA (out) "Analog Output. Refer to OUTB pin description."

## LTC6911IMS-2#PBF
designator U?
Dual Channel, Matched Amplifier with Digitally Programmable Gain, 11 MHz Typical GBW, 16 V/us Typical SR, 2.7 to 10.5 V, 10-Pin SOP (MS-10), Industrial, Pb-Free; Linear Technology Part Number: LTC6911-2; Manufacturer: Linear Technology; PartNumber: LTC6911IMS-2#PBF; Channels (#): 2; GBW (MHz) Typical: 11; Is (mA) Typical: 2.1; SR (V/us) Typical: 16; Vs Max (V): 10.5; Vs Min (V): 2.7; PackageVersion: Rev E; PackageReference: LT-MS-10; PackageDescription: 10-Lead Plastic MSOP, Body 3 x 3 mm, Pitch 0.5 mm; Supplier 1: Digi-Key; Supplier Part Number 1: LTC6911IMS-2#PBF-ND; RoHS: Pb-Free; Type: PGA; Vos (mV) Typical: 2; Mounting Technology: Surface Mount; ComponentLink1Description: Manufacturer URL; ComponentLink1URL: http://www.linear.com/; ComponentLink2Description: Datasheet; ComponentLink2URL: http://cds.linear.com/docs/en/datasheet/691112fs.pdf; ComponentLink3Description: Package Specification; ComponentLink3URL: http://cds.linear.com/docs/en/packaging/MSOP_10_05-08-1661.pdf
footprint LT-MS-10_N (SOP, 10-Leads, Body 3x3mm, Pitch 0.50mm, IPC Medium Density)
footprint LT-MS-10_L (SOP, 10-Leads, Body 3x3mm, Pitch 0.50mm, IPC High Density)
footprint LT-MS-10_M (SOP, 10-Leads, Body 3x3mm, Pitch 0.50mm, IPC Low Density)
pins: 1 INA (in) "Analog Input. The input signal to the A channel amplifier of the LTC6911-X is the voltage difference between the INA and AGND pin.", 2 AGND (power) "Analog Ground. The AGND pin is at the midpoint of an internal resistive voltage divider, developing a potential halfway between the V+ and V- pins, with an equivalent series resistance to the pin of nominally 5kW (FigureÊ1).", 3 INB (in) "Analog Input. Refer to INA pin description.", 4 G0 (in) "CMOS-Level Digital Gain Control Inputs. G2 is the most significant bit (MSB) and G0 is the least significant bit (LSB). These pins control the voltage gain settings for both channels (see Tables 1 and2). Each channel’s gain (See Datasheet)", 5 G1 (in) "CMOS-Level Digital Gain Control Inputs. G2 is the most significant bit (MSB) and G0 is the least significant bit (LSB). These pins control the voltage gain settings for both channels (see Tables 1 and2). Each channel’s gain (See Datasheet)", 6 G2 (in) "CMOS-Level Digital Gain Control Inputs. G2 is the most significant bit (MSB) and G0 is the least significant bit (LSB). These pins control the voltage gain settings for both channels (see Tables 1 and2). Each channel’s gain (See Datasheet)", 7 V+ (power) "Power Supply Pins. The V+ and V- pins should be bypassed with 0.1mF capacitors to an adequate analog ground plane using the shortest possible wiring. Electrically clean supplies and a low impedance ground are important for (See Datasheet)", 8 OUTB (out) "Analog Output. This is the output of the B channel internal operational amplifier and can swing railto- rail (V+ to V-) as specified in the Electrical Characteristics table.", 9 V- (power) "Power Supply Pins. The V+ and V- pins should be bypassed with 0.1mF capacitors to an adequate analog ground plane using the shortest possible wiring. Electrically clean supplies and a low impedance ground are important for (See Datasheet)", 10 OUTA (out) "Analog Output. Refer to OUTB pin description."

## LTC6911IMS-2#TR
designator U?
Dual Channel, Matched Amplifier with Digitally Programmable Gain, 11 MHz Typical GBW, 16 V/us Typical SR, 2.7 to 10.5 V, 10-Pin SOP (MS-10), Industrial, Reel; Linear Technology Part Number: LTC6911-2; Manufacturer: Linear Technology; PartNumber: LTC6911IMS-2#TR; Channels (#): 2; GBW (MHz) Typical: 11; Is (mA) Typical: 2.1; SR (V/us) Typical: 16; Vs Max (V): 10.5; Vs Min (V): 2.7; PackageVersion: Rev E; PackageReference: LT-MS-10; PackageDescription: 10-Lead Plastic MSOP, Body 3 x 3 mm, Pitch 0.5 mm; Supplier 1: Digi-Key; Supplier Part Number 1: LTC6911IMS-2#TR-ND; Packing: Reel; Type: PGA; Vos (mV) Typical: 2; Mounting Technology: Surface Mount; ComponentLink1Description: Manufacturer URL; ComponentLink1URL: http://www.linear.com/; ComponentLink2Description: Datasheet; ComponentLink2URL: http://cds.linear.com/docs/en/datasheet/691112fs.pdf; ComponentLink3Description: Package Specification; ComponentLink3URL: http://cds.linear.com/docs/en/packaging/MSOP_10_05-08-1661.pdf
footprint LT-MS-10_N (SOP, 10-Leads, Body 3x3mm, Pitch 0.50mm, IPC Medium Density)
footprint LT-MS-10_L (SOP, 10-Leads, Body 3x3mm, Pitch 0.50mm, IPC High Density)
footprint LT-MS-10_M (SOP, 10-Leads, Body 3x3mm, Pitch 0.50mm, IPC Low Density)
pins: 1 INA (in) "Analog Input. The input signal to the A channel amplifier of the LTC6911-X is the voltage difference between the INA and AGND pin.", 2 AGND (power) "Analog Ground. The AGND pin is at the midpoint of an internal resistive voltage divider, developing a potential halfway between the V+ and V- pins, with an equivalent series resistance to the pin of nominally 5kW (FigureÊ1).", 3 INB (in) "Analog Input. Refer to INA pin description.", 4 G0 (in) "CMOS-Level Digital Gain Control Inputs. G2 is the most significant bit (MSB) and G0 is the least significant bit (LSB). These pins control the voltage gain settings for both channels (see Tables 1 and2). Each channel’s gain (See Datasheet)", 5 G1 (in) "CMOS-Level Digital Gain Control Inputs. G2 is the most significant bit (MSB) and G0 is the least significant bit (LSB). These pins control the voltage gain settings for both channels (see Tables 1 and2). Each channel’s gain (See Datasheet)", 6 G2 (in) "CMOS-Level Digital Gain Control Inputs. G2 is the most significant bit (MSB) and G0 is the least significant bit (LSB). These pins control the voltage gain settings for both channels (see Tables 1 and2). Each channel’s gain (See Datasheet)", 7 V+ (power) "Power Supply Pins. The V+ and V- pins should be bypassed with 0.1mF capacitors to an adequate analog ground plane using the shortest possible wiring. Electrically clean supplies and a low impedance ground are important for (See Datasheet)", 8 OUTB (out) "Analog Output. This is the output of the B channel internal operational amplifier and can swing railto- rail (V+ to V-) as specified in the Electrical Characteristics table.", 9 V- (power) "Power Supply Pins. The V+ and V- pins should be bypassed with 0.1mF capacitors to an adequate analog ground plane using the shortest possible wiring. Electrically clean supplies and a low impedance ground are important for (See Datasheet)", 10 OUTA (out) "Analog Output. Refer to OUTB pin description."

## LTC6911IMS-2#TRPBF
designator U?
Dual Channel, Matched Amplifier with Digitally Programmable Gain, 11 MHz Typical GBW, 16 V/us Typical SR, 2.7 to 10.5 V, 10-Pin SOP (MS-10), Industrial, Pb-Free, Reel; Linear Technology Part Number: LTC6911-2; Manufacturer: Linear Technology; PartNumber: LTC6911IMS-2#TRPBF; Channels (#): 2; GBW (MHz) Typical: 11; Is (mA) Typical: 2.1; SR (V/us) Typical: 16; Vs Max (V): 10.5; Vs Min (V): 2.7; PackageVersion: Rev E; PackageReference: LT-MS-10; PackageDescription: 10-Lead Plastic MSOP, Body 3 x 3 mm, Pitch 0.5 mm; Supplier 1: Digi-Key; Supplier Part Number 1: LTC6911IMS-2#TRPBF-ND; Packing: Reel; RoHS: Pb-Free; Type: PGA; Vos (mV) Typical: 2; Mounting Technology: Surface Mount; ComponentLink1Description: Manufacturer URL; ComponentLink1URL: http://www.linear.com/; ComponentLink2Description: Datasheet; ComponentLink2URL: http://cds.linear.com/docs/en/datasheet/691112fs.pdf; ComponentLink3Description: Package Specification; ComponentLink3URL: http://cds.linear.com/docs/en/packaging/MSOP_10_05-08-1661.pdf
footprint LT-MS-10_N (SOP, 10-Leads, Body 3x3mm, Pitch 0.50mm, IPC Medium Density)
footprint LT-MS-10_L (SOP, 10-Leads, Body 3x3mm, Pitch 0.50mm, IPC High Density)
footprint LT-MS-10_M (SOP, 10-Leads, Body 3x3mm, Pitch 0.50mm, IPC Low Density)
pins: 1 INA (in) "Analog Input. The input signal to the A channel amplifier of the LTC6911-X is the voltage difference between the INA and AGND pin.", 2 AGND (power) "Analog Ground. The AGND pin is at the midpoint of an internal resistive voltage divider, developing a potential halfway between the V+ and V- pins, with an equivalent series resistance to the pin of nominally 5kW (FigureÊ1).", 3 INB (in) "Analog Input. Refer to INA pin description.", 4 G0 (in) "CMOS-Level Digital Gain Control Inputs. G2 is the most significant bit (MSB) and G0 is the least significant bit (LSB). These pins control the voltage gain settings for both channels (see Tables 1 and2). Each channel’s gain (See Datasheet)", 5 G1 (in) "CMOS-Level Digital Gain Control Inputs. G2 is the most significant bit (MSB) and G0 is the least significant bit (LSB). These pins control the voltage gain settings for both channels (see Tables 1 and2). Each channel’s gain (See Datasheet)", 6 G2 (in) "CMOS-Level Digital Gain Control Inputs. G2 is the most significant bit (MSB) and G0 is the least significant bit (LSB). These pins control the voltage gain settings for both channels (see Tables 1 and2). Each channel’s gain (See Datasheet)", 7 V+ (power) "Power Supply Pins. The V+ and V- pins should be bypassed with 0.1mF capacitors to an adequate analog ground plane using the shortest possible wiring. Electrically clean supplies and a low impedance ground are important for (See Datasheet)", 8 OUTB (out) "Analog Output. This is the output of the B channel internal operational amplifier and can swing railto- rail (V+ to V-) as specified in the Electrical Characteristics table.", 9 V- (power) "Power Supply Pins. The V+ and V- pins should be bypassed with 0.1mF capacitors to an adequate analog ground plane using the shortest possible wiring. Electrically clean supplies and a low impedance ground are important for (See Datasheet)", 10 OUTA (out) "Analog Output. Refer to OUTB pin description."